# EAGLE library part LD39050PUR (library LD39050PUR)
LD39050 Series Adj to 0.8 V 500 mA Low Noise Voltage Regulator - SOT-23-5 Check availability <https://pricing.snapeda.com/parts/LD39050PUR/STMicroelectronics/view-part?ref=eda>
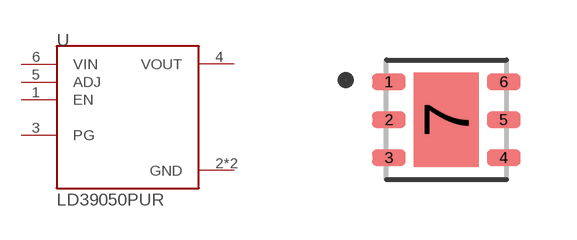
[diagram p0: symbol with the pads of SON95P300X300X100-7N; footprint SON95P300X300X100-7N]

Designator prefix U

## LD39050PUR (Availability: In Stock; Description: Linear Voltage Regulator IC Positive Adjustable 1 Output 500mA 6-DFN (3x3); MF: STMicroelectronics; MP: LD39050PUR; Package: DFN-6 STMicroelectronics; Price: None; Purchase-URL: https://pricing.snapeda.com/search/part/LD39050PUR/?ref=eda)  [SON95P300X300X100-7N]
1  EN  in
2  GND  pwr
3  PG
4  VOUT  out
5  ADJ  in
6  VIN  in
7  GND  pwr

## Footprint SON95P300X300X100-7N (pad centres in mm)
smd 0.84 x 0.4: 1 -1.435,0.95; 2 -1.435,0; 3 -1.435,-0.95; 4 1.435,-0.95; 5 1.435,0; 6 1.435,0.95
smd 1.625 x 2.365: 7 0,0